# Altium schematic symbol library libysk_switches.SchLib: 1 symbol
Pins are listed as number, name and electrical type; pins without a type are passive.

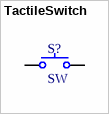
[diagram p0: symbol TactileSwitch]

## TactileSwitch
designator S?, comment SW
SW TACTILE
footprint SW_TACTILE_3x6 (TACTILE SWITCH, SMD, 3,6)
pins: 1, 1